# EAGLE library part TPS2540 (library firefly)
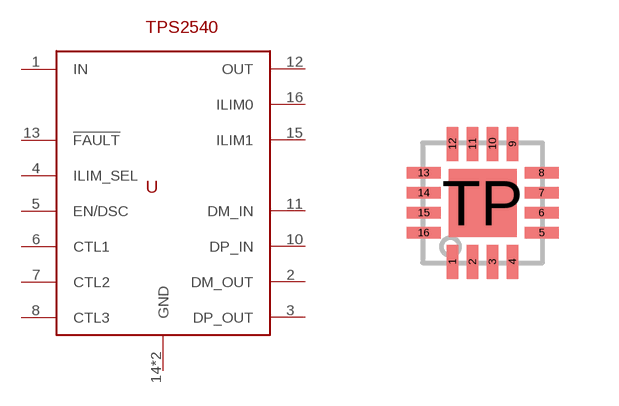
[diagram p21: symbol with the pads of S-PWQFN-N16; footprint S-PWQFN-N16]

Designator prefix -

## TPS2540  [S-PWQFN-N16]
1  IN
2  DM_OUT
3  DP_OUT
4  ILIM_SEL
5  EN/DSC
6  CTL1
7  CTL2
8  CTL3
10  DP_IN
11  DM_IN
12  OUT
13  !FAULT
14  GND
15  ILIM1
16  ILIM0
TP  GND

## Footprint S-PWQFN-N16 (pad centres in mm)
smd 0.28 x 0.85: 1 -0.75,-1.475; 2 -0.25,-1.475; 3 0.25,-1.475; 4 0.75,-1.475; 9 0.75,1.475; 10 0.25,1.475; 11 -0.25,1.475; 12 -0.75,1.475
smd 0.85 x 0.28: 5 1.475,-0.75; 6 1.475,-0.25; 7 1.475,0.25; 8 1.475,0.75; 13 -1.475,0.75; 14 -1.475,0.25; 15 -1.475,-0.25; 16 -1.475,-0.75
smd 1.7 x 1.7: TP 0,0